# Altium schematic symbol library IC_6N137.SchLib: 1 symbol
Pins are listed as number, name and electrical type; pins without a type are passive.

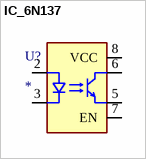
[diagram p0: symbol IC_6N137]

## IC_6N137
designator U?
pins: 2 A, 3 K, 5 E, 6 C, 7 EN, 8 VCC